# Altium footprint library rocke_mcu.PcbLib: 33 footprints (part 1 of 3)
Each footprint in its own frame and in the unit in brackets; x right, y up, seen from the top. Pads: shape width x height; smd on the part's side, far side on the other; paste and mask are expansions set on the pad; w line width, h text height; cw(c..) or ccw(c..) is an arc to the next point about the centre after c.
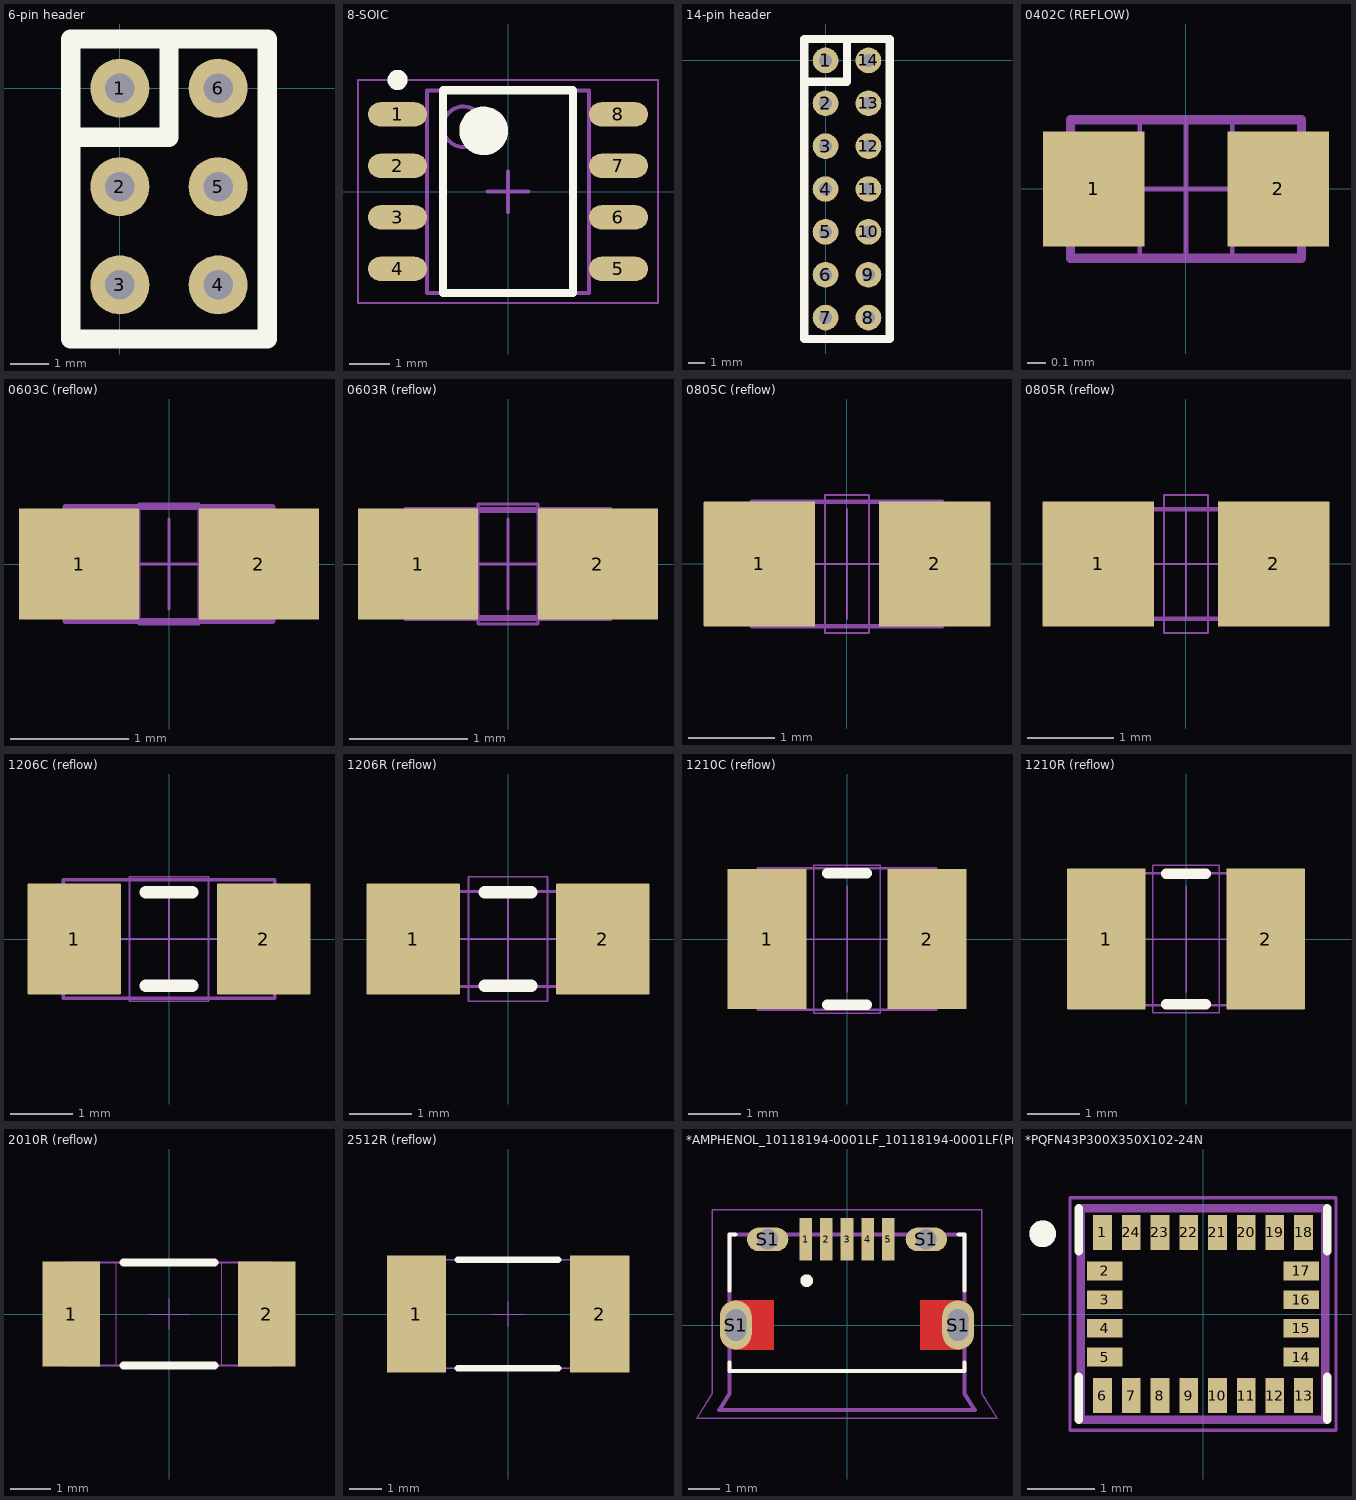
[diagram p0: the footprints below, top view; thin cyan lines are the x and y axes]

## 6-pin header [mil]
pads (6):
  round 60 hole 30: 1(0,0) 2(0,-100) 3(0,-200) 4(100,-200) 5(100,-100) 6(100,0)
Top Overlay:
  lines w19.68: -50,-50 50,-50 50,50 ; -50,-255 -50,50 150,50 150,-255 -50,-255

## 8-SOIC [mm] "SOIC, 8-Leads, Body 4.91x3.90mm, Pitch 1.27mm, IPC Medium Density"
height 1.75
pads (8):
  oval 1.45x0.6 smd: 1(-2.725,1.905) 2(-2.725,0.635) 3(-2.725,-0.635) 4(-2.725,-1.905) 5(2.725,-1.905) 6(2.725,-0.635) 7(2.725,0.635) 8(2.725,1.905)
Top Overlay:
  circle w0.6: c-0.6,1.5 r0.3
  circle w0.25: c-2.725,2.755 r0.125
  lines w0.2: -1.6,-2.5 1.6,-2.5 1.6,2.5 -1.6,2.5 -1.6,-2.5
Mechanical 13:
  circle w0.1: c-1.1,1.6 r0.5
  lines w0.1: -2,-2.5 2,-2.5 2,2.5 -2,2.5 -2,-2.5
Mechanical 15:
  lines w0.05: -3.7,-2.75 3.7,-2.75 3.7,2.75 -3.7,2.75 -3.7,-2.75
  lines w0.1: -0.5,0 0.5,0 ; 0,-0.5 0,0.5
3D body "SOIC127P600X175-8N.step": height 1.75, standoff 0, extent -2.997,-2.5 2.997,2.5

## 14-pin header [mil]
pads (14):
  round 60 hole 30: 1(0,0) 2(0,-100) 3(0,-200) 4(0,-300) 5(0,-400) 6(0,-500) 7(0,-600) 8(100,-600) 9(100,-500) 10(100,-400) 11(100,-300) 12(100,-200) 13(100,-100) 14(100,0)
Top Overlay:
  lines w19.68: -50,-50 50,-50 50,50 ; -50,-650 150,-650 150,50 -50,50 -50,-650

## 0402C (REFLOW) [mil]
pads (2):
  rrect1% 22x25 smd: 1(-20,0) 2(20,0)
Mechanical 1:
  lines w2: -25,-15 -8.25,-15 8.25,-15 25,-15 25,15 -25,15 -25,-15
Mechanical 7:
  lines w1: -15,0 15,0 ; 0,-15 0,15
Mechanical 8:
  lines w1: -10,-15 10,-15 10,15 -10,15 -10,-15
3D body "Chip Cap_MLCC_0402 (1005).step": height 19.68, standoff 0, extent -20,-10 19.37,9.69

## 0603C (reflow) [mil]
pads (2):
  rrect1% 40x37 smd: 1(-30,0) 2(30,0)
Mechanical 1:
  lines w2: -34.5,-19 34.5,-19 34.5,19 -34.5,19 -34.5,-19
Mechanical 7:
  lines w1: -20,0 20,0 ; 0,-15 0,15
Mechanical 8:
  lines w1: -10,-20 10,-20 10,20 -10,20 -10,-20
3D body: height 1, standoff 0, extent -50,-19 50,19
3D body: height 37, standoff 1, extent -24.5,-18 24.5,18
3D body: height 38, standoff 0, extent 24.51,-19 34.5,19
3D body: height 38, standoff 0, extent -34.5,-19 -24.5,19

## 0603R (reflow) [mil]
pads (2):
  rrect1% 40x37 smd: 1(-30,0) 2(30,0)
Mechanical 1:
  lines w2: -34,-18 -34,18 34,18 34,-18 -34,-18
Mechanical 7:
  lines w1: -20,0 20,0 ; 0,-15 0,15
Mechanical 8:
  lines w1: -10,-20 -10,20 10,20 10,-20 -10,-20
3D body: height 1, standoff 0, extent -50,-18.5 50,18.5
3D body "RS0603HD.STEP": height 18, standoff 0, extent -30.5,-15.5 30.5,15.5

## 0805C (reflow) [mil]
pads (2):
  rrect1% 51x57 smd: 1(-40,0) 2(40,0)
Mechanical 1:
  lines w2: -43.5,-28.5 43.5,-28.5 43.5,28.5 -43.5,28.5 -43.5,-28.5
Mechanical 7:
  lines w1: -39.5,0 40,0 ; 0,-25 0,25
Mechanical 8:
  lines w1: -10,-31.5 10,-31.5 10,31.5 -10,31.5 -10,-31.5
3D body: height 1, standoff 0, extent -65.5,-28.5 65.5,28.5
3D body: height 59, standoff 1, extent -23.5,-27.5 23.5,27.5
3D body: height 60, standoff 0, extent 23.5,-28.5 43.5,28.5
3D body: height 60, standoff 0, extent -43.5,-28.5 -23.5,28.5

## 0805R (reflow) [mil]
pads (2):
  rrect1% 51x57 smd: 1(-40,0) 2(40,0)
Mechanical 1:
  lines w2: -40,-25 -40,25 40,25 40,-25 -40,-25
Mechanical 7:
  lines w1: -40,0 40,0 ; 0,-25 0,25
Mechanical 8:
  lines w1: -10,-31.5 -10,31.5 10,31.5 10,-31.5 -10,-31.5
3D body: height 1, standoff 0, extent -65.5,-28.5 65.5,28.5
3D body "RS0805HD.STEP": height 22, standoff 0, extent -39.5,-24 39.5,24

## 1206C (reflow) [mil]
pads (2):
  rrect1% 59x70 smd: 1(-60,0) 2(60,0)
Top Overlay:
  lines w8: -14.76,-29.53 14.76,-29.53 ; -14.76,29.53 14.76,29.53
Mechanical 1:
  lines w2: -67,-37.5 67,-37.5 67,37.5 -67,37.5 -67,-37.5
Mechanical 7:
  lines w1: -65,0 65,0 ; 0,-30 0,30
Mechanical 8:
  lines w1: -25,-39.5 25,-39.5 25,39.5 -25,39.5 -25,-39.5
3D body: height 1, standoff 0, extent -89.5,-37.5 89.5,37.5
3D body: height 70, standoff 0, extent -67,-37.5 -47,37.5
3D body: height 70, standoff 0, extent 47,-37.5 67,37.5
3D body: height 69, standoff 1, extent -47,-36.5 47,36.5

## 1206R (reflow) [mil]
pads (2):
  rrect1% 59x70 smd: 1(-60,0) 2(60,0)
Top Overlay:
  lines w8: -14.76,-29.53 14.76,-29.53 ; -14.76,29.53 14.76,29.53
Mechanical 1:
  lines w2: -65,-30 -65,30 65,30 65,-30 -65,-30
Mechanical 7:
  lines w1: -65,0 65,0 ; 0,-30 0,30
Mechanical 8:
  lines w1: -25,-39.5 -25,39.5 25,39.5 25,-39.5 -25,-39.5
3D body: height 1, standoff 0, extent -89.5,-35 89.5,35
3D body "RS1206.STEP": height 24, standoff 0, extent -63,-31 63,31

## 1210C (reflow) [mil]
pads (2):
  rrect1% 59x105 smd: 1(-60,0) 2(60,0)
Top Overlay:
  lines w8: -14.76,-49.21 14.76,-49.21 ; -14.76,49.21 14.76,49.21
Top Paste:
  lines w2: -87.5,-48.5 -49.5,-48.5 -49.5,48.5 -87.5,48.5 -87.5,-48.5 ; 49.5,-48.5 49.5,48.5 87.5,48.5 87.5,-48.5 49.5,-48.5
Mechanical 1:
  lines w2: -67,-53 67,-53 67,53 -67,53 -67,-53
Mechanical 7:
  lines w1: -65,0 65,0 ; 0,-40 0,40
Mechanical 8:
  lines w1: -25,-55.5 25,-55.5 25,55.5 -25,55.5 -25,-55.5
3D body: height 1, standoff 0, extent -89.5,-53 89.5,53
3D body: height 110, standoff 0, extent -67,-53 -47,53
3D body: height 110, standoff 0, extent 47,-53 67,53
3D body: height 109, standoff 1, extent -47,-52 47,52

## 1210R (reflow) [mil]
pads (2):
  rrect1% 59x106 smd: 1(-60,0) 2(60,0)
Top Overlay:
  lines w8: -14.76,-49.21 14.76,-49.21 ; -14.76,49.21 14.76,49.21
Top Paste:
  lines w2: -87,-48.5 -87,48.5 -49,48.5 -49,-48.5 -87,-48.5 ; 50,-48.5 50,48.5 88,48.5 88,-48.5 50,-48.5
Mechanical 1:
  lines w2: -60.5,-50 60,-50 60,49.5 -60.5,49.5 -60.5,-50
Mechanical 7:
  lines w1: -65,0 65,0 ; 0,-40 0,40
Mechanical 8:
  lines w1: -25,-55.5 25,-55.5 25,55.5 -25,55.5 -25,-55.5
3D body: height 1, standoff 0, extent -89.5,-53 89.5,53
3D body "Res_1210.STEP": height 22.24, standoff 0, extent -61.02,-51.24 61.03,51.2

## 2010R (reflow) [mil]
pads (2):
  rrect1% 56x102 smd: 1(-95,0) 2(95,0)
Top Overlay:
  lines w8: -44.29,-50.2 44.29,-50.2 ; -44.29,50.2 44.29,50.2
Mechanical 1:
  lines w2: -100,-50 100,-50 100,50 -100,50 -100,-50
Mechanical 7:
  lines w1: -20,0 20,0 ; 0,-15 0,15
Mechanical 8:
  lines w1: -51.18,-50 51.18,-50 51.18,50 -51.18,50 -51.18,-50
3D body: height 1, standoff 0, extent -122.98,-50.98 122.98,50.98
3D body "RS2010.STEP": height 22, standoff 0, extent -100,-50 100,50

## 2512R (reflow) [mil]
pads (2):
  rrect1% 71x140 smd: 1(-110,0) 2(110,0)
Top Overlay:
  lines w8: -60,-65 60,-65 ; -60,65 60,65
Mechanical 1:
  lines w2: -130,-65 -130,65 130,65 130,-65 -130,-65
Mechanical 7:
  lines w1: -20,0 20,0 ; 0,-15 0,15
3D body "R2512.step": height 22.24, standoff 0, extent -125,-63.04 125,63.03

## *AMPHENOL_10118194-0001LF_10118194-0001LF(Primary) [mm]
pads (9):
  rect 0.4x1.35 smd: 1(-1.3,2.7) 2(-0.65,2.7) 3(0,2.7) 4(0.65,2.7) 5(1.3,2.7)
  oval 1x1.55 hole 0.65 slot 1 at 90 deg: S1(-3.5,0) S1(3.5,0)
  oval 1.3x0.75 hole 0.65: S1(-2.5,2.7) S1(2.5,2.7)
Top Layer:
  region: 193 vertices and 0 holes, not listed, extent 2.3,-0.78 4,0.775
  region: 193 vertices and 0 holes, not listed, extent -4,-0.775 -2.3,0.78
Top Overlay:
  circle w0.2: c-1.27,1.397 r0.1
  lines w0.127: -3.7,-1.18 -3.7,-1.45 3.7,-1.45 3.7,-1.18 ; -3.7,1.095 -3.7,2.85 -3.52,2.85 ; 3.52,2.85 3.7,2.85 3.7,1.095
Top Paste:
  drawing of 6 lines, arcs and shapes, not listed
Top Solder:
  region: 3.6,-0.875 2.2,-0.875 2.2,0.875 3.6,0.875 3.626,0.874 3.652,0.872 3.678,0.869 3.704,0.864 3.729,0.858 3.755,0.851 3.779,0.842 3.803,0.832 3.827,0.821 3.85,0.808 3.872,0.794 3.894,0.78 3.915,0.764 3.935,0.747 3.954,0.729 3.972,0.71 3.989,0.69 4.005,0.669 4.019,0.647 4.033,0.625 4.046,0.602 4.057,0.578 4.067,0.554 4.076,0.53 4.083,0.504 4.089,0.479 4.094,0.453 4.097,0.427 4.099,0.401 4.1,0.375 4.1,-0.375 4.099,-0.401 4.097,-0.427 4.094,-0.453 4.089,-0.479 4.083,-0.504 4.076,-0.53 4.067,-0.554 4.057,-0.578 4.046,-0.602 4.033,-0.625 4.019,-0.647 4.005,-0.669 3.989,-0.69 3.972,-0.71 3.954,-0.729 3.935,-0.747 3.915,-0.764 3.894,-0.78 3.872,-0.794 3.85,-0.808 3.827,-0.821 3.803,-0.832 3.779,-0.842 3.755,-0.851 3.729,-0.858 3.704,-0.864 3.678,-0.869 3.652,-0.872 3.626,-0.874
  region: -3.6,0.875 -2.2,0.875 -2.2,-0.875 -3.6,-0.875 -3.626,-0.874 -3.652,-0.872 -3.678,-0.869 -3.704,-0.864 -3.729,-0.858 -3.755,-0.851 -3.779,-0.842 -3.803,-0.832 -3.827,-0.821 -3.85,-0.808 -3.872,-0.794 -3.894,-0.78 -3.915,-0.764 -3.935,-0.747 -3.954,-0.729 -3.972,-0.71 -3.989,-0.69 -4.005,-0.669 -4.019,-0.647 -4.033,-0.625 -4.046,-0.602 -4.057,-0.578 -4.067,-0.554 -4.076,-0.53 -4.083,-0.504 -4.089,-0.479 -4.094,-0.453 -4.097,-0.427 -4.099,-0.401 -4.1,-0.375 -4.1,0.375 -4.099,0.401 -4.097,0.427 -4.094,0.453 -4.089,0.479 -4.083,0.504 -4.076,0.53 -4.067,0.554 -4.057,0.578 -4.046,0.602 -4.033,0.625 -4.019,0.647 -4.005,0.669 -3.989,0.69 -3.972,0.71 -3.954,0.729 -3.935,0.747 -3.915,0.764 -3.894,0.78 -3.872,0.794 -3.85,0.808 -3.827,0.821 -3.803,0.832 -3.779,0.842 -3.755,0.851 -3.729,0.858 -3.704,0.864 -3.678,0.869 -3.652,0.872 -3.626,0.874
Mechanical 1:
  lines w0: -3.75,-0.325 ccw(c-3.5,-0.325) -3.25,-0.325 -3.25,0.325 ccw(c-3.5,0.325) -3.75,0.325 -3.75,-0.325 ; -2.65,2.425 cw(c-2.65,2.7) -2.65,2.975 -2.35,2.975 cw(c-2.35,2.7) -2.35,2.425 -2.65,2.425 ; 2.35,2.425 cw(c2.35,2.7) 2.35,2.975 2.65,2.975 cw(c2.65,2.7) 2.65,2.425 2.35,2.425 ; 3.25,-0.325 ccw(c3.5,-0.325) 3.75,-0.325 3.75,0.325 ccw(c3.5,0.325) 3.25,0.325 3.25,-0.325
Mechanical 13:
  lines w0.127: -4.025,-2.68 4.025,-2.68 ; -4.025,-2.68 -3.7,-2.15 ; -4.025,-2.68 4.025,-2.68 ; -4.025,-2.68 -3.7,-2.15 ; -3.7,-2.15 -3.7,-1.45 ; -3.7,-2.15 -3.7,-1.45 ; -3.7,-1.45 -3.7,2.85 ; -3.7,-1.45 3.7,-1.45 ; -3.7,-1.45 -3.7,2.85 ; -3.7,-1.45 3.7,-1.45 ; -3.7,2.85 3.7,2.85 ; -3.7,2.85 3.7,2.85 ; 3.7,-2.15 3.7,-1.45 ; 3.7,-2.15 4.025,-2.68 ; 3.7,-2.15 3.7,-1.45 ; 3.7,-2.15 4.025,-2.68 ; 3.7,-1.45 3.7,2.85 ; 3.7,-1.45 3.7,2.85
Mechanical 16:
  lines w0.05: -4.725,-2.93 -4.25,-2.15 -4.25,3.625 4.25,3.625 4.25,-2.15 4.725,-2.93 -4.725,-2.93
3D body "10118194-0001LF--3DModel-STEP-56544.STEP": height 2.72, standoff -0.55, extent -4.025,-2.736 4.025,2.794

## *PQFN43P300X350X102-24N [mm]
pads (24):
  rect 0.28x0.53 smd: 1(-1.505,1.22) 6(-1.505,-1.22) 7(-1.075,-1.22) 8(-0.645,-1.22) 9(-0.215,-1.22) 10(0.215,-1.22) 11(0.645,-1.22) 12(1.075,-1.22) 13(1.505,-1.22) 18(1.505,1.22) 19(1.075,1.22) 20(0.645,1.22) 21(0.215,1.22) 22(-0.215,1.22) 23(-0.645,1.22) 24(-1.075,1.22)
  rect 0.53x0.28 smd: 2(-1.47,0.645) 3(-1.47,0.215) 4(-1.47,-0.215) 5(-1.47,-0.645) 14(1.47,-0.645) 15(1.47,-0.215) 16(1.47,0.215) 17(1.47,0.645)
Top Overlay:
  circle w0.2: c-2.4,1.2 r0.1
  lines w0.127: -1.86,-1.58 -1.86,-0.94 ; -1.86,0.94 -1.86,1.58 ; 1.86,-1.58 1.86,-0.94 ; 1.86,0.94 1.86,1.58
Mechanical 4:
  circle w0.2: c-2.4,1.2 r0.1
  circle w0.2: c-2.4,1.2 r0.1
  lines w0.127: -1.83,-1.58 1.83,-1.58 ; -1.83,-1.58 -1.83,1.58 ; -1.83,-1.58 1.83,-1.58 ; -1.83,-1.58 -1.83,1.58 ; -1.83,1.58 1.83,1.58 ; -1.83,1.58 1.83,1.58 ; 1.83,-1.58 1.83,1.58 ; 1.83,-1.58 1.83,1.58
Mechanical 16:
  lines w0.05: -1.99,-1.74 1.99,-1.74 1.99,1.74 -1.99,1.74 -1.99,-1.74
3D body "LGA-24_3X3P5X1-M.step": height 1.4, standoff 0, extent -1.75,-1.5 1.75,1.5